# Altium footprint library KitDemov2.PcbLib: 49 footprints (part 2 of 4)
Each footprint in its own frame and in the unit in brackets; x right, y up, seen from the top. Pads: shape width x height; smd on the part's side, far side on the other; paste and mask are expansions set on the pad; w line width, h text height; cw(c..) or ccw(c..) is an arc to the next point about the centre after c.
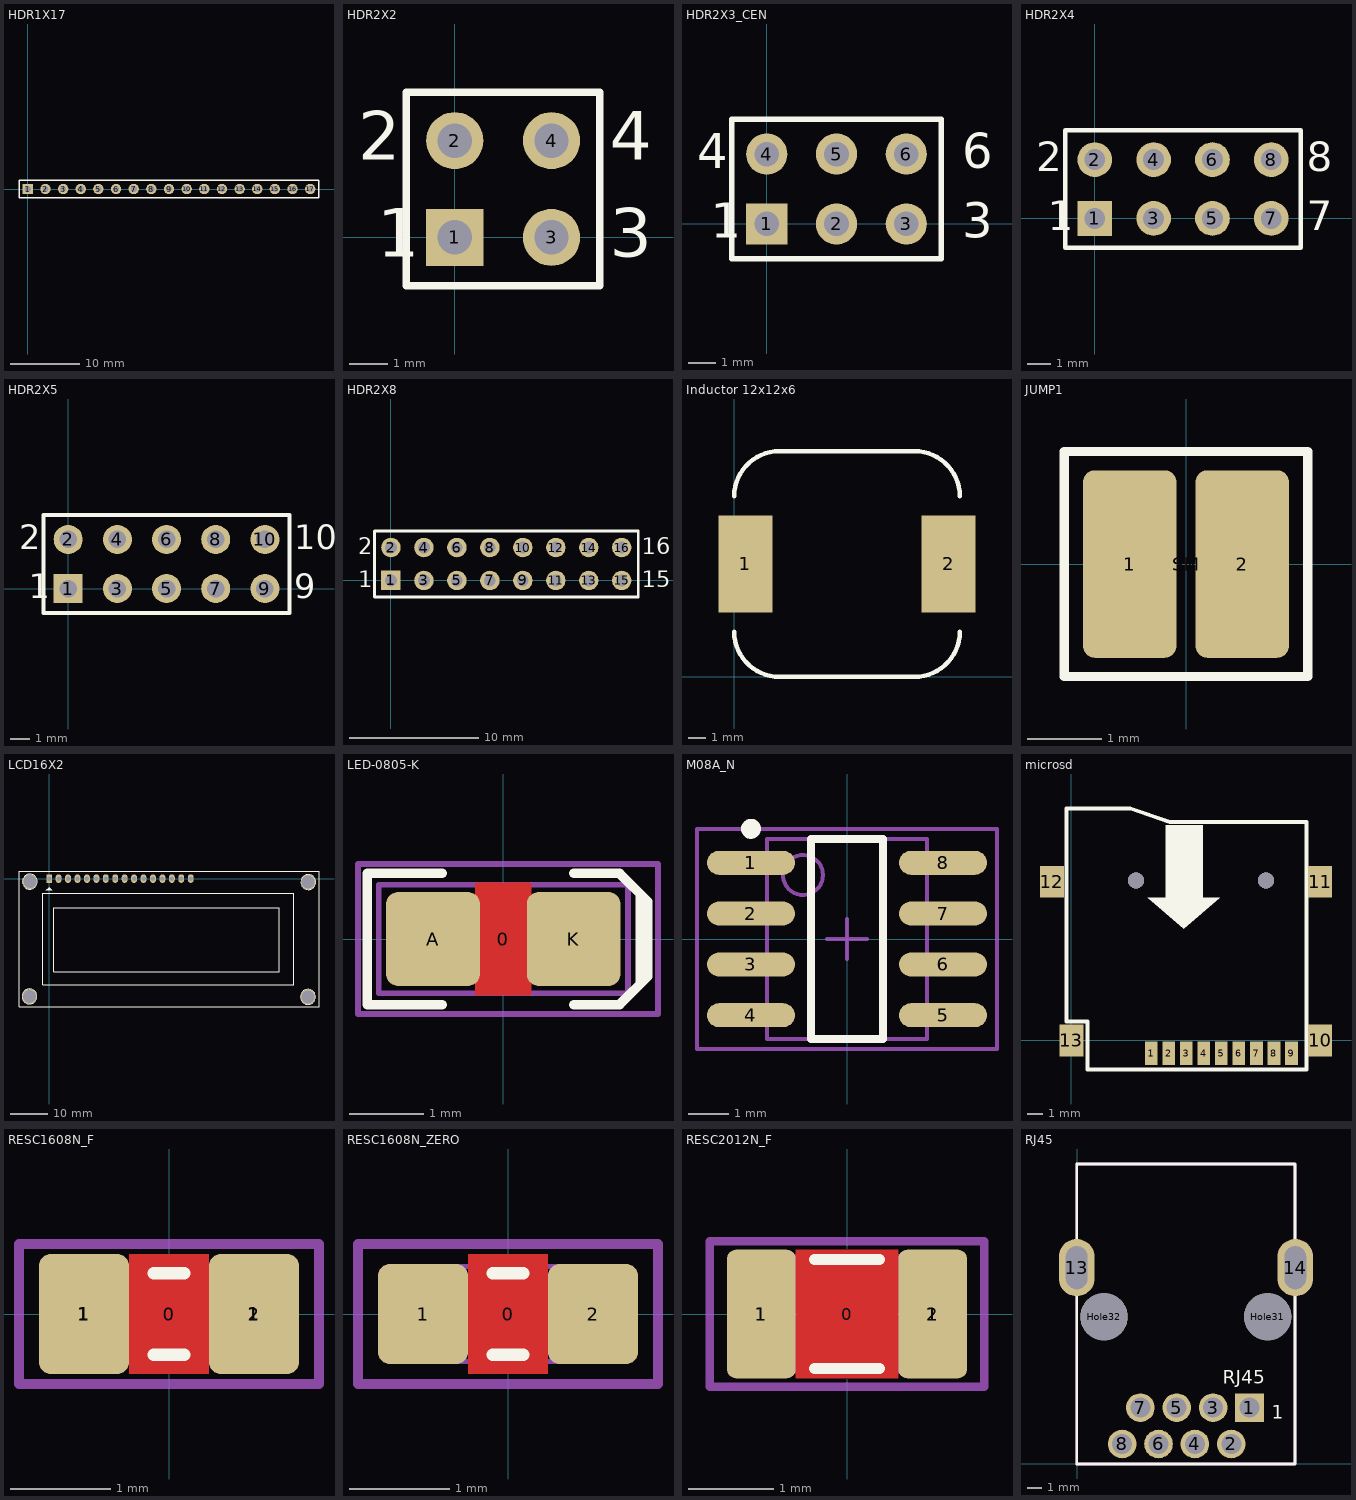
[diagram p1: the footprints below, top view; thin cyan lines are the x and y axes]

## HDR1X17 [mm] "Connector; Header; 17 Position"
pads (17):
  rect 1.5x1.5 hole 0.9: 1(0,0)
  round 1.5 hole 0.9: 2(2.54,0) 3(5.08,0) 4(7.62,0) 5(10.16,0) 6(12.7,0) 7(15.24,0) 8(17.78,0) 9(20.32,0) 10(22.86,0) 11(25.4,0) 12(27.94,0) 13(30.48,0) 14(33.02,0) 15(35.56,0) 16(38.1,0) 17(40.64,0)
Top Overlay:
  lines w0.2: -1.27,-1.27 -1.27,1.27 0.635,1.27 41.91,1.27 41.91,-1.27 -1.27,-1.27

## HDR2X2 [mm] "Connector; Header; 2x2 Position"
pads (4):
  rect 1.5x1.5 hole 0.9: 1(0,0)
  round 1.5 hole 0.9: 2(0,2.54) 3(2.54,0) 4(2.54,2.54)
Top Overlay:
  lines w0.2: -1.27,-1.27 -1.27,3.81 3.81,3.81 3.81,-1.27 -1.27,-1.27
  text "1" at -2.032,-0.508 h1.27
  text "2" at -2.54,2.032 h1.27
  text "4" at 4.064,2.032 h1.27
  text "3" at 4.064,-0.508 h1.27

## HDR2X3_CEN [mm] "Connector; Header; 3x2 Position"
pads (6):
  rect 1.5x1.5 hole 0.9: 1(0,0)
  round 1.5 hole 0.9: 2(2.54,0) 3(5.08,0) 4(0,2.54) 5(2.54,2.54) 6(5.08,2.54)
Top Overlay:
  lines w0.2: -1.27,-1.27 6.35,-1.27 6.35,3.81 -1.27,3.81 -1.27,-1.27
  text "6" at 7.112,2.032 h1.27
  text "3" at 7.112,-0.508 h1.27
  text "1" at -2.032,-0.508 h1.27
  text "4" at -2.54,2.032 h1.27

## HDR2X4 [mm] "Connector; Header; 4x2 Position"
pads (8):
  rect 1.5x1.5 hole 0.9: 1(0,0)
  round 1.5 hole 0.9: 2(0,2.54) 3(2.54,0) 4(2.54,2.54) 5(5.08,0) 6(5.08,2.54) 7(7.62,0) 8(7.62,2.54)
Top Overlay:
  lines w0.2: -1.27,-1.27 8.89,-1.27 8.89,3.81 -1.27,3.81 -1.27,-1.27
  text "2" at -2.54,2.032 h1.27
  text "1" at -2.032,-0.508 h1.27
  text "7" at 9.144,-0.508 h1.27
  text "8" at 9.144,2.032 h1.27

## HDR2X5 [mm] "Connector; Header; 5x2 Position"
pads (10):
  rect 1.5x1.5 hole 0.9: 1(0,0)
  round 1.5 hole 0.9: 2(0,2.54) 3(2.54,0) 4(2.54,2.54) 5(5.08,0) 6(5.08,2.54) 7(7.62,0) 8(7.62,2.54) 9(10.16,0) 10(10.16,2.54)
Top Overlay:
  lines w0.2: -1.27,-1.27 -1.27,3.81 11.43,3.81 11.43,-1.27 -1.27,-1.27
  text "2" at -2.54,2.032 h1.27
  text "1" at -2.032,-0.508 h1.27
  text "9" at 11.684,-0.508 h1.27
  text "10" at 11.684,2.032 h1.27

## HDR2X8 [mm] "Connector; Header; 8x2 Position"
pads (16):
  rect 1.5x1.5 hole 0.9: 1(0,0)
  round 1.5 hole 0.9: 2(0,2.54) 3(2.54,0) 4(2.54,2.54) 5(5.08,0) 6(5.08,2.54) 7(7.62,0) 8(7.62,2.54) 9(10.16,0) 10(10.16,2.54) 11(12.7,0) 12(12.7,2.54) 13(15.24,0) 14(15.24,2.54) 15(17.78,0) 16(17.78,2.54)
Top Overlay:
  lines w0.2: -1.27,-1.27 19.05,-1.27 19.05,3.81 -1.27,3.81 -1.27,-1.27
  text "16" at 19.304,2.032 h1.27
  text "15" at 19.304,-0.508 h1.27
  text "1" at -2.54,-0.508 h1.27
  text "2" at -2.54,2.032 h1.27

## Inductor 12x12x6 [mil]
height 255
pads (2):
  rect 120x215 smd: 1(25,250) 2(475,250)
Top Overlay:
  lines w10: 0,100 ccw(c100,100) 100,0 400,0 ccw(c400,100) 500,100 ; 0,400 cw(c100,400) 100,500 400,500 cw(c400,400) 500,400
3D body: height 336.61, standoff -19.68, extent -50,-47.24 544.49,547.24

## JUMP1 [mil] "SMT Battery jumper pads"
pads (3):
  rrect25% 50x100 smd: 1(-30,0) 2(30,0)
  rrect50% 118x108 on Top Solder: SM(0,0)
Top Overlay:
  lines w5: -65,-60 -65,60 65,60 65,-60 -65,-60
Mechanical 13:
  lines w3: -65,-60 -65,60 65,60 65,-60 -65,-60

## LCD16X2 [mil] "LCD dipslay 16x2, 16 pin"
height 400
pads (20):
  rect 62x90 hole 47.24: 1(0,0)
  oval 62x90 hole 47.24: 2(100,0) 3(200,0) 4(300,0) 5(400,0) 6(500,0) 7(600,0) 8(700,0) 9(800,0) 10(900,0) 11(1000,0) 12(1100,0) 13(1200,0) 14(1300,0) 15(1400,0) 16(1500,0)
  round 157.48 hole 137.8: "Hole 0"(-208,-1250) "Hole 0"(-206,-33) "Hole 0"(2743,-1254) "Hole 0"(2746,-36)
Top Overlay:
  circle w7: c2742.94,-1254 r79.06
  circle w7: c2746.94,-37 r79.06
  circle w7: c-205.06,-32 r79.06
  circle w7: c-209.06,-1249 r79.06
  region: 0,-90 -35,-125 35,-125
  lines w7: -320,-1360 -320,80 2860,80 2860,-1360 -320,-1360 ; -69,-1123 -69,-153 2590,-153 2590,-1123 -69,-1123 ; 50,-987 50,-309 2438,-309 2438,-987 50,-987
3D body: height 669.91, standoff 149.91, extent -318,-1357 2851.29,80
3D body: height 255.91, standoff 196.85, extent -50,-50 50,50
3D body: height 354.33, standoff -39.37, extent -15.62,-15.71 15.75,15.72
3D body: height 255.91, standoff 196.85, extent 50,-50 150,50
3D body: height 354.33, standoff -39.37, extent 84.38,-15.71 115.75,15.72
3D body: height 255.91, standoff 196.85, extent 150,-50 250,50
3D body: height 354.33, standoff -39.37, extent 184.38,-15.71 215.75,15.72
3D body: height 255.91, standoff 196.85, extent 250,-50 350,50
3D body: height 354.33, standoff -39.37, extent 284.38,-15.71 315.75,15.72
3D body: height 255.91, standoff 196.85, extent 350,-50 450,50
3D body: height 354.33, standoff -39.37, extent 384.38,-15.71 415.75,15.72
3D body: height 354.33, standoff -39.37, extent 884.38,-15.71 915.75,15.72
3D body: height 255.91, standoff 196.85, extent 850,-50 950,50
3D body: height 354.33, standoff -39.37, extent 784.38,-15.71 815.75,15.72
3D body: height 255.91, standoff 196.85, extent 750,-50 850,50
3D body: height 354.33, standoff -39.37, extent 684.38,-15.71 715.75,15.72
3D body: height 255.91, standoff 196.85, extent 650,-50 750,50
3D body: height 354.33, standoff -39.37, extent 584.38,-15.71 615.75,15.72
3D body: height 255.91, standoff 196.85, extent 550,-50 650,50
3D body: height 354.33, standoff -39.37, extent 484.38,-15.71 515.75,15.72
3D body: height 255.91, standoff 196.85, extent 450,-50 550,50
3D body: height 354.33, standoff -39.37, extent 1384.38,-15.71 1415.75,15.72
3D body: height 255.91, standoff 196.85, extent 1350,-50 1450,50
3D body: height 354.33, standoff -39.37, extent 1284.38,-15.71 1315.75,15.72
3D body: height 255.91, standoff 196.85, extent 1250,-50 1350,50
3D body: height 354.33, standoff -39.37, extent 1184.38,-15.71 1215.75,15.72
3D body: height 255.91, standoff 196.85, extent 1150,-50 1250,50
3D body: height 354.33, standoff -39.37, extent 1084.38,-15.71 1115.75,15.72
3D body: height 255.91, standoff 196.85, extent 1050,-50 1150,50
3D body: height 354.33, standoff -39.37, extent 984.38,-15.71 1015.75,15.72
3D body: height 255.91, standoff 196.85, extent 950,-50 1050,50
3D body: height 354.33, standoff -39.37, extent 1484.38,-15.71 1515.75,15.72
3D body: height 255.91, standoff 196.85, extent 1450,-50 1550,50

## LED-0805-K [mil]
height 31.5
pads (3):
  round 20 on Mech14: 0(0,0)
  rrect25% 50x50 smd: A(-37.5,0) K(37.5,0)
Top Layer:
  pour cut-out: -15,30 15,30 15,-30 -15,-30
Top Overlay:
  lines w5: -32.5,-35 -72.5,-35 -72.5,35 -32.5,35 ; 37.5,-35 62,-35 77,-20 77,20 62,35 37.5,35 ; 73,-24 73,24
Mechanical 13:
  lines w3: -66.5,-29 66.5,-29 66.5,29 -66.5,29 -66.5,-29
Mechanical 14:
  lines w3: -77.5,-40 82.5,-40 82.5,40 -77.5,40 -77.5,-40
3D body: height 31.5, standoff 11.81, extent -28.65,-24.6 26.49,24.61
3D body: height 11.81, standoff 3.94, extent -39.37,-24.61 39.37,24.61
3D body: height 3.94, standoff 0, extent -39.37,-24.61 39.37,24.61
3D body: height 3.94, standoff 0, extent -11.81,-15.75 11.81,15.75

## M08A_N [mm] "SOIC, 8-Leads, Body 4.9x3.9mm, Pitch 1.27mm, IPC Medium Density"
height 1.75
pads (8):
  oval 2.2x0.6 smd: 1(-2.4,1.905) 2(-2.4,0.635) 3(-2.4,-0.635) 4(-2.4,-1.905) 5(2.4,-1.905) 6(2.4,-0.635) 7(2.4,0.635) 8(2.4,1.905)
Top Overlay:
  circle w0.25: c-2.4,2.755 r0.125
  lines w0.2: -0.9,-2.5 -0.9,2.5 0.9,2.5 0.9,-2.5 -0.9,-2.5
Mechanical 13:
  circle w0.1: c-1.1,1.6 r0.5
  lines w0.1: -2,-2.5 -2,2.5 2,2.5 2,-2.5 -2,-2.5
Mechanical 15:
  lines w0.1: -0.5,0 0.5,0 ; 0,-0.5 0,0.5 ; -3.75,-2.75 -3.75,2.75 3.75,2.75 3.75,-2.75 -3.75,-2.75
3D body: height 1.75, standoff 0, extent -2,-2.5 2,2.5

## microsd [mm]
pads (13):
  rect 0.8x1.5 smd: 1(5.004,-0.804) 2(6.104,-0.804) 3(7.204,-0.804) 4(8.304,-0.804) 5(9.404,-0.804) 6(10.504,-0.804) 7(11.604,-0.804) 8(12.704,-0.804) 9(13.804,-0.804)
  rect 1.5x2 smd: 10(15.596,0) 11(15.596,9.95) 12(-1.219,9.95) 13(0,0)
via 4.039,10.027 diameter 1 hole 1
via 12.192,10.027 diameter 1 hole 1
Top Overlay:
  region: 8.23,13.481 5.918,13.481 5.918,8.909 5.944,8.934 4.775,8.934 7.061,7.004 9.296,8.934 8.23,8.934
  lines w0.254: -0.305,1.2 -0.305,14.561 3.668,14.561 6.172,13.697 14.732,13.697 14.732,-1.835 1.016,-1.835 1.016,1.2 -0.305,1.2
3D body: height 1.85, standoff 0, extent -0.305,-0.324 14.732,14.561
3D body: height 1.2, standoff 0.2, extent 1.758,1.859 12.77,16.859

## RESC1608N_F [mm] "Chip Resistor, Body 1.6x0.8mm, 0603, IPC Medium Density, for Flex circuits"
height 0.55
pads (7):
  round 0.254 on Mech14: 0(0,0)
  rrect50% 1.1x1 on Top Solder: 1(-0.85,0) 1(0.85,0)
  rrect25% 0.9x1.2 smd paste-1: 1(-0.85,0) 2(0.85,0)
  rrect50% 0.9x1 on Top Paste: 1(-0.85,0) 1(0.85,0)
Top Layer:
  pour cut-out: -0.4,0.6 0.4,0.6 0.4,-0.6 -0.4,-0.6
Top Overlay:
  lines w0.127: -0.152,-0.406 0.152,-0.406 ; -0.152,0.406 0.152,0.406
Mechanical 13:
  lines w0.05: -0.875,-0.475 -0.875,0.475 -0.475,0.475 -0.475,-0.475 -0.875,-0.475 ; -0.475,-0.474 0.475,-0.474 -0.475,-0.474 ; -0.475,0.474 0.475,0.474 -0.475,0.474 ; 0.475,-0.475 0.875,-0.475 0.875,0.475 0.475,0.475 0.475,-0.475
Mechanical 14:
  lines w0.1: -1.5,-0.7 1.5,-0.7 1.5,0.7 -1.5,0.7 -1.5,-0.7
3D body: height 0.54, standoff -0.01, extent -0.875,-0.475 0.875,0.475

## RESC1608N_ZERO [mm] "Chip Resistor, Body 1.6x0.8mm, 0603, IPC Medium Density"
height 0.55
pads (3):
  round 0.254 on Mech14: 0(0,0)
  rrect25% 0.9x1 smd: 1(-0.85,0) 2(0.85,0)
Top Layer:
  pour cut-out: -0.4,0.6 0.4,0.6 0.4,-0.6 -0.4,-0.6
Top Overlay:
  lines w0.127: -0.152,-0.406 0.152,-0.406 ; -0.152,0.406 0.152,0.406
Mechanical 13:
  lines w0.05: -0.875,-0.475 -0.875,0.475 -0.475,0.475 -0.475,-0.475 -0.875,-0.475 ; -0.475,-0.474 0.475,-0.474 -0.475,-0.474 ; -0.475,0.474 0.475,0.474 -0.475,0.474 ; 0.475,-0.475 0.875,-0.475 0.875,0.475 0.475,0.475 0.475,-0.475
Mechanical 14:
  lines w0.1: -1.5,-0.7 -1.5,0.7 1.5,0.7 1.5,-0.7 -1.5,-0.7
3D body: height 0.54, standoff -0.01, extent -0.875,-0.475 0.875,0.475

## RESC2012N_F [mm] "Chip Resistor, Body 2.0x1.2mm, 0805, IPC Medium Density"
height 0.7
pads (7):
  round 0.254 on Mech14: 0(0,0)
  rrect50% 1x1.3 on Top Solder: 1(-1,0) 1(1,0)
  rrect25% 0.8x1.5 smd paste-1: 1(-1,0) 2(1,0)
  rrect50% 0.8x1.3 on Top Paste: 1(-1,0) 1(1,0)
Top Layer:
  pour cut-out: -0.6,0.75 0.6,0.75 0.6,-0.75 -0.6,-0.75
Top Overlay:
  lines w0.127: -0.381,-0.635 0.381,-0.635 ; -0.381,0.635 0.381,0.635
Mechanical 13:
  lines w0.05: 0.6,-0.674 -0.6,-0.674 ; -0.6,-0.674 0.6,-0.674 ; -0.6,-0.675 -1.1,-0.675 -1.1,0.675 -0.6,0.675 -0.6,-0.675 ; 0.6,-0.675 1.1,-0.675 1.1,0.675 0.6,0.675 ; 0.6,-0.675 0.6,0.675 ; 0.6,0.674 -0.6,0.674 0.6,0.674
Mechanical 14:
  lines w0.1: -1.6,-0.85 -1.6,0.85 1.6,0.85 1.6,-0.85 -1.6,-0.85
3D body: height 0.69, standoff -0.01, extent -1.1,-0.675 1.1,0.675

## RJ45 [mm]
pads (12):
  rect 2x2 hole 1.4: 1(12.04,3.937)
  round 2 hole 1.4: 2(10.77,1.397) 3(9.5,3.937) 4(8.23,1.397) 5(6.96,3.937) 6(5.69,1.397) 7(4.42,3.937) 8(3.15,1.397)
  oval 2.5x4 hole 1.5 slot 3 at 90 deg: 13(-0.025,13.716) 14(15.24,13.716)
  round 3.3 hole 3.3: Hole31(13.31,10.287) Hole32(1.88,10.287)
Top Overlay:
  lines w0.203: 15.215,15.519 15.215,18.161 15.215,20.955 -0.025,20.955 -0.025,18.161 -0.025,15.684 -0.025,0 15.215,0 15.215,15.684
  text "RJ45" at 10.16,5.588 h0.95
  text "1" at 13.592,3.159 h0.95
Mechanical 2:
  lines w0.203: 15.215,15.519 15.215,18.161 15.215,20.955 -0.025,20.955 -0.025,18.161 -0.025,15.684 -0.025,0 15.215,0 15.215,15.684
  text "1" at 13.592,3.159 h0.95
  text "1" at 13.592,3.159 h0.95
3D body: height 15.07, standoff -3.62, extent -1.982,-0.508 17.018,21.082